# Altium schematic symbol library SCH - MCU - ATSAM - MICROCHIP SAMC21N17A-AN TQFP100.SchLib: 1 symbol
Pins are listed as number, name and electrical type; pins without a type are passive.

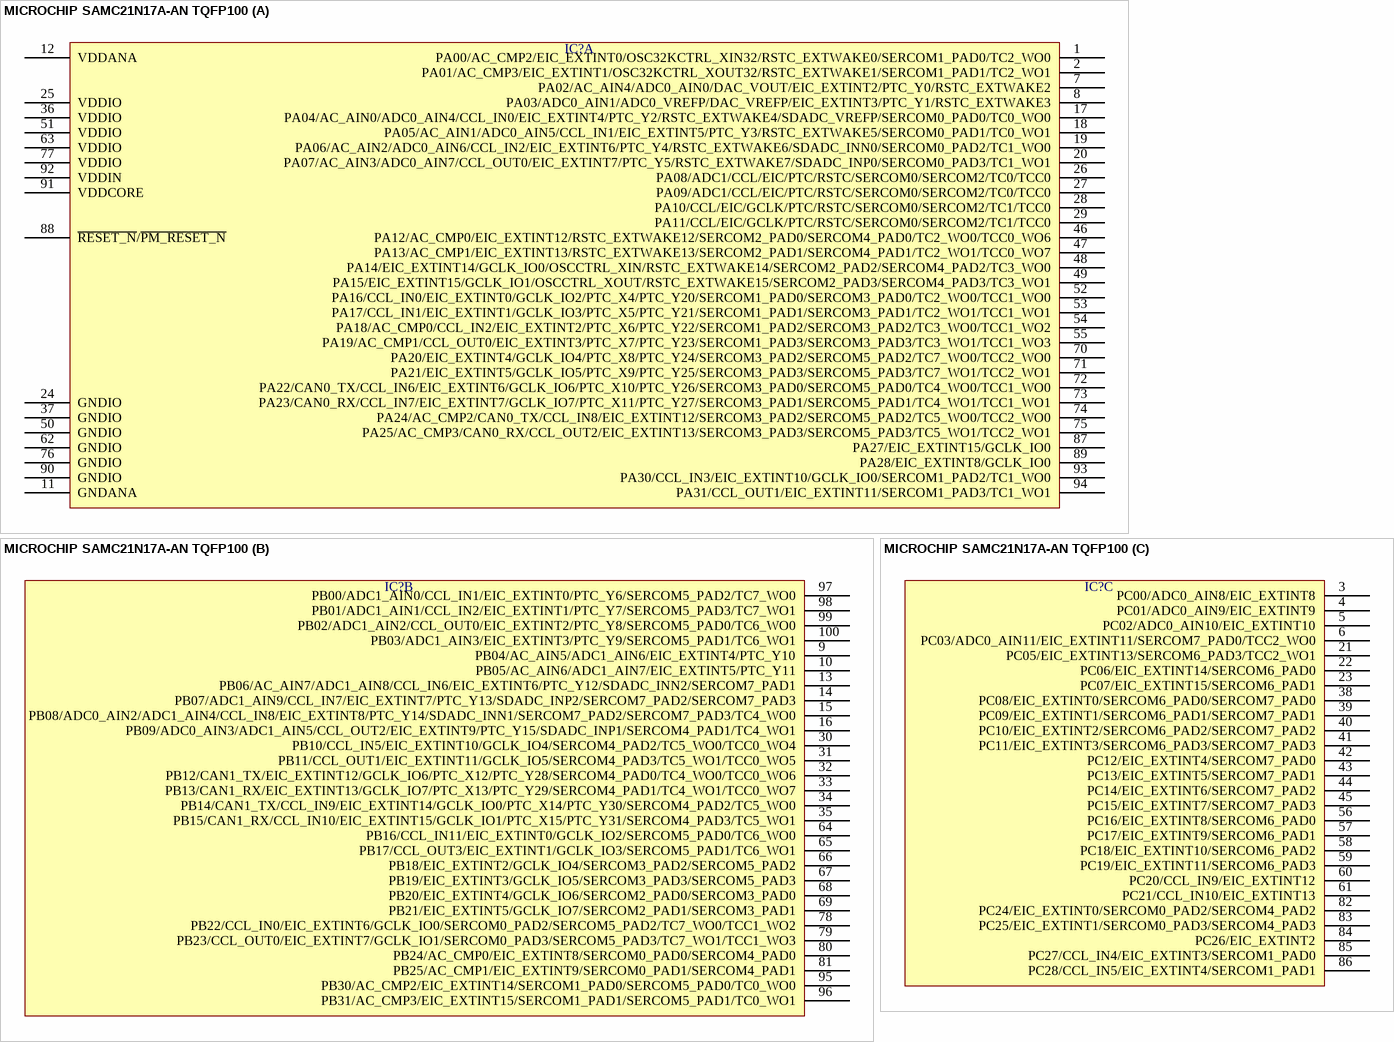
[diagram p0: symbol MICROCHIP SAMC21N17A-AN TQFP100]

## MICROCHIP SAMC21N17A-AN TQFP100
designator IC?  (value not drawn)
part A pins: 1 PA00/AC_CMP2/EIC_EXTINT0/OSC32KCTRL_XIN32/RSTC_EXTWAKE0/SERCOM1_PAD0/TC2_WO0, 2 PA01/AC_CMP3/EIC_EXTINT1/OSC32KCTRL_XOUT32/RSTC_EXTWAKE1/SERCOM1_PAD1/TC2_WO1, 7 PA02/AC_AIN4/ADC0_AIN0/DAC_VOUT/EIC_EXTINT2/PTC_Y0/RSTC_EXTWAKE2, 8 PA03/ADC0_AIN1/ADC0_VREFP/DAC_VREFP/EIC_EXTINT3/PTC_Y1/RSTC_EXTWAKE3, 11 GNDANA, 12 VDDANA, 17 PA04/AC_AIN0/ADC0_AIN4/CCL_IN0/EIC_EXTINT4/PTC_Y2/RSTC_EXTWAKE4/SDADC_VREFP/SERCOM0_PAD0/TC0_WO0, 18 PA05/AC_AIN1/ADC0_AIN5/CCL_IN1/EIC_EXTINT5/PTC_Y3/RSTC_EXTWAKE5/SERCOM0_PAD1/TC0_WO1, 19 PA06/AC_AIN2/ADC0_AIN6/CCL_IN2/EIC_EXTINT6/PTC_Y4/RSTC_EXTWAKE6/SDADC_INN0/SERCOM0_PAD2/TC1_WO0, 20 PA07/AC_AIN3/ADC0_AIN7/CCL_OUT0/EIC_EXTINT7/PTC_Y5/RSTC_EXTWAKE7/SDADC_INP0/SERCOM0_PAD3/TC1_WO1, 24 GNDIO, 25 VDDIO, 26 PA08/ADC1/CCL/EIC/PTC/RSTC/SERCOM0/SERCOM2/TC0/TCC0, 27 PA09/ADC1/CCL/EIC/PTC/RSTC/SERCOM0/SERCOM2/TC0/TCC0, 28 PA10/CCL/EIC/GCLK/PTC/RSTC/SERCOM0/SERCOM2/TC1/TCC0, 29 PA11/CCL/EIC/GCLK/PTC/RSTC/SERCOM0/SERCOM2/TC1/TCC0, 36 VDDIO, 37 GNDIO, 46 PA12/AC_CMP0/EIC_EXTINT12/RSTC_EXTWAKE12/SERCOM2_PAD0/SERCOM4_PAD0/TC2_WO0/TCC0_WO6, 47 PA13/AC_CMP1/EIC_EXTINT13/RSTC_EXTWAKE13/SERCOM2_PAD1/SERCOM4_PAD1/TC2_WO1/TCC0_WO7, 48 PA14/EIC_EXTINT14/GCLK_IO0/OSCCTRL_XIN/RSTC_EXTWAKE14/SERCOM2_PAD2/SERCOM4_PAD2/TC3_WO0, 49 PA15/EIC_EXTINT15/GCLK_IO1/OSCCTRL_XOUT/RSTC_EXTWAKE15/SERCOM2_PAD3/SERCOM4_PAD3/TC3_WO1, 50 GNDIO, 51 VDDIO, 52 PA16/CCL_IN0/EIC_EXTINT0/GCLK_IO2/PTC_X4/PTC_Y20/SERCOM1_PAD0/SERCOM3_PAD0/TC2_WO0/TCC1_WO0, 53 PA17/CCL_IN1/EIC_EXTINT1/GCLK_IO3/PTC_X5/PTC_Y21/SERCOM1_PAD1/SERCOM3_PAD1/TC2_WO1/TCC1_WO1, 54 PA18/AC_CMP0/CCL_IN2/EIC_EXTINT2/PTC_X6/PTC_Y22/SERCOM1_PAD2/SERCOM3_PAD2/TC3_WO0/TCC1_WO2, 55 PA19/AC_CMP1/CCL_OUT0/EIC_EXTINT3/PTC_X7/PTC_Y23/SERCOM1_PAD3/SERCOM3_PAD3/TC3_WO1/TCC1_WO3, 62 GNDIO, 63 VDDIO, 70 PA20/EIC_EXTINT4/GCLK_IO4/PTC_X8/PTC_Y24/SERCOM3_PAD2/SERCOM5_PAD2/TC7_WO0/TCC2_WO0, 71 PA21/EIC_EXTINT5/GCLK_IO5/PTC_X9/PTC_Y25/SERCOM3_PAD3/SERCOM5_PAD3/TC7_WO1/TCC2_WO1, 72 PA22/CAN0_TX/CCL_IN6/EIC_EXTINT6/GCLK_IO6/PTC_X10/PTC_Y26/SERCOM3_PAD0/SERCOM5_PAD0/TC4_WO0/TCC1_WO0, 73 PA23/CAN0_RX/CCL_IN7/EIC_EXTINT7/GCLK_IO7/PTC_X11/PTC_Y27/SERCOM3_PAD1/SERCOM5_PAD1/TC4_WO1/TCC1_WO1, 74 PA24/AC_CMP2/CAN0_TX/CCL_IN8/EIC_EXTINT12/SERCOM3_PAD2/SERCOM5_PAD2/TC5_WO0/TCC2_WO0, 75 PA25/AC_CMP3/CAN0_RX/CCL_OUT2/EIC_EXTINT13/SERCOM3_PAD3/SERCOM5_PAD3/TC5_WO1/TCC2_WO1, 76 GNDIO, 77 VDDIO, 87 PA27/EIC_EXTINT15/GCLK_IO0, 88 ~{RESET_N}/~{PM_RESET_N}, 89 PA28/EIC_EXTINT8/GCLK_IO0, 90 GNDIO, 91 VDDCORE, 92 VDDIN, 93 PA30/CCL_IN3/EIC_EXTINT10/GCLK_IO0/SERCOM1_PAD2/TC1_WO0, 94 PA31/CCL_OUT1/EIC_EXTINT11/SERCOM1_PAD3/TC1_WO1
part B pins: 9 PB04/AC_AIN5/ADC1_AIN6/EIC_EXTINT4/PTC_Y10, 10 PB05/AC_AIN6/ADC1_AIN7/EIC_EXTINT5/PTC_Y11, 13 PB06/AC_AIN7/ADC1_AIN8/CCL_IN6/EIC_EXTINT6/PTC_Y12/SDADC_INN2/SERCOM7_PAD1, 14 PB07/ADC1_AIN9/CCL_IN7/EIC_EXTINT7/PTC_Y13/SDADC_INP2/SERCOM7_PAD2/SERCOM7_PAD3, 15 PB08/ADC0_AIN2/ADC1_AIN4/CCL_IN8/EIC_EXTINT8/PTC_Y14/SDADC_INN1/SERCOM7_PAD2/SERCOM7_PAD3/TC4_WO0, 16 PB09/ADC0_AIN3/ADC1_AIN5/CCL_OUT2/EIC_EXTINT9/PTC_Y15/SDADC_INP1/SERCOM4_PAD1/TC4_WO1, 30 PB10/CCL_IN5/EIC_EXTINT10/GCLK_IO4/SERCOM4_PAD2/TC5_WO0/TCC0_WO4, 31 PB11/CCL_OUT1/EIC_EXTINT11/GCLK_IO5/SERCOM4_PAD3/TC5_WO1/TCC0_WO5, 32 PB12/CAN1_TX/EIC_EXTINT12/GCLK_IO6/PTC_X12/PTC_Y28/SERCOM4_PAD0/TC4_WO0/TCC0_WO6, 33 PB13/CAN1_RX/EIC_EXTINT13/GCLK_IO7/PTC_X13/PTC_Y29/SERCOM4_PAD1/TC4_WO1/TCC0_WO7, 34 PB14/CAN1_TX/CCL_IN9/EIC_EXTINT14/GCLK_IO0/PTC_X14/PTC_Y30/SERCOM4_PAD2/TC5_WO0, 35 PB15/CAN1_RX/CCL_IN10/EIC_EXTINT15/GCLK_IO1/PTC_X15/PTC_Y31/SERCOM4_PAD3/TC5_WO1, 64 PB16/CCL_IN11/EIC_EXTINT0/GCLK_IO2/SERCOM5_PAD0/TC6_WO0, 65 PB17/CCL_OUT3/EIC_EXTINT1/GCLK_IO3/SERCOM5_PAD1/TC6_WO1, 66 PB18/EIC_EXTINT2/GCLK_IO4/SERCOM3_PAD2/SERCOM5_PAD2, 67 PB19/EIC_EXTINT3/GCLK_IO5/SERCOM3_PAD3/SERCOM5_PAD3, 68 PB20/EIC_EXTINT4/GCLK_IO6/SERCOM2_PAD0/SERCOM3_PAD0, 69 PB21/EIC_EXTINT5/GCLK_IO7/SERCOM2_PAD1/SERCOM3_PAD1, 78 PB22/CCL_IN0/EIC_EXTINT6/GCLK_IO0/SERCOM0_PAD2/SERCOM5_PAD2/TC7_WO0/TCC1_WO2, 79 PB23/CCL_OUT0/EIC_EXTINT7/GCLK_IO1/SERCOM0_PAD3/SERCOM5_PAD3/TC7_WO1/TCC1_WO3, 80 PB24/AC_CMP0/EIC_EXTINT8/SERCOM0_PAD0/SERCOM4_PAD0, 81 PB25/AC_CMP1/EIC_EXTINT9/SERCOM0_PAD1/SERCOM4_PAD1, 95 PB30/AC_CMP2/EIC_EXTINT14/SERCOM1_PAD0/SERCOM5_PAD0/TC0_WO0, 96 PB31/AC_CMP3/EIC_EXTINT15/SERCOM1_PAD1/SERCOM5_PAD1/TC0_WO1, 97 PB00/ADC1_AIN0/CCL_IN1/EIC_EXTINT0/PTC_Y6/SERCOM5_PAD2/TC7_WO0, 98 PB01/ADC1_AIN1/CCL_IN2/EIC_EXTINT1/PTC_Y7/SERCOM5_PAD3/TC7_WO1, 99 PB02/ADC1_AIN2/CCL_OUT0/EIC_EXTINT2/PTC_Y8/SERCOM5_PAD0/TC6_WO0, 100 PB03/ADC1_AIN3/EIC_EXTINT3/PTC_Y9/SERCOM5_PAD1/TC6_WO1
part C pins: 3 PC00/ADC0_AIN8/EIC_EXTINT8, 4 PC01/ADC0_AIN9/EIC_EXTINT9, 5 PC02/ADC0_AIN10/EIC_EXTINT10, 6 PC03/ADC0_AIN11/EIC_EXTINT11/SERCOM7_PAD0/TCC2_WO0, 21 PC05/EIC_EXTINT13/SERCOM6_PAD3/TCC2_WO1, 22 PC06/EIC_EXTINT14/SERCOM6_PAD0, 23 PC07/EIC_EXTINT15/SERCOM6_PAD1, 38 PC08/EIC_EXTINT0/SERCOM6_PAD0/SERCOM7_PAD0, 39 PC09/EIC_EXTINT1/SERCOM6_PAD1/SERCOM7_PAD1, 40 PC10/EIC_EXTINT2/SERCOM6_PAD2/SERCOM7_PAD2, 41 PC11/EIC_EXTINT3/SERCOM6_PAD3/SERCOM7_PAD3, 42 PC12/EIC_EXTINT4/SERCOM7_PAD0, 43 PC13/EIC_EXTINT5/SERCOM7_PAD1, 44 PC14/EIC_EXTINT6/SERCOM7_PAD2, 45 PC15/EIC_EXTINT7/SERCOM7_PAD3, 56 PC16/EIC_EXTINT8/SERCOM6_PAD0, 57 PC17/EIC_EXTINT9/SERCOM6_PAD1, 58 PC18/EIC_EXTINT10/SERCOM6_PAD2, 59 PC19/EIC_EXTINT11/SERCOM6_PAD3, 60 PC20/CCL_IN9/EIC_EXTINT12, 61 PC21/CCL_IN10/EIC_EXTINT13, 82 PC24/EIC_EXTINT0/SERCOM0_PAD2/SERCOM4_PAD2, 83 PC25/EIC_EXTINT1/SERCOM0_PAD3/SERCOM4_PAD3, 84 PC26/EIC_EXTINT2, 85 PC27/CCL_IN4/EIC_EXTINT3/SERCOM1_PAD0, 86 PC28/CCL_IN5/EIC_EXTINT4/SERCOM1_PAD1